# EAGLE library part 23LCV1024-I/P (library 23LCV1024)
1Mbit SPI Serial SRAM,8PDIP
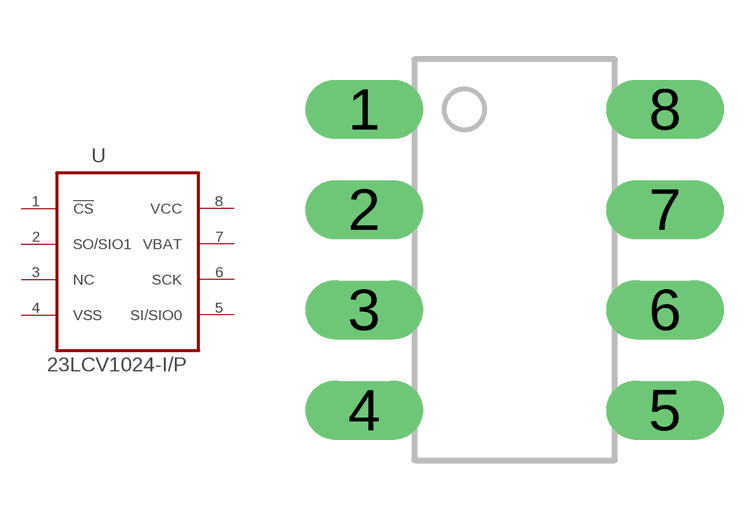
[diagram p0: symbol with the pads of DIP254P762X533-8; footprint DIP254P762X533-8]

Designator prefix -

## 23LCV1024-I/P (MPN: 23LCV1024-I/P; PACKAGE: 8PDIP; SUPPLIER: MICROCHIP)  [DIP254P762X533-8]
1  !CS  in
2  SO/SIO1  out
3  NC  nc
4  VSS  pas
5  SI/SIO0  in
6  SCK  in
7  VBAT  pwr
8  VCC  pwr

## Footprint DIP254P762X533-8 (pad centres in mm)
drill 0.991 long: 1 -3.81,3.81; 2 -3.81,1.27; 3 -3.81,-1.27; 4 -3.81,-3.81; 5 3.81,-3.81; 6 3.81,-1.27; 7 3.81,1.27; 8 3.81,3.81